# EAGLE library part NXW-07 (library con-ninigi)
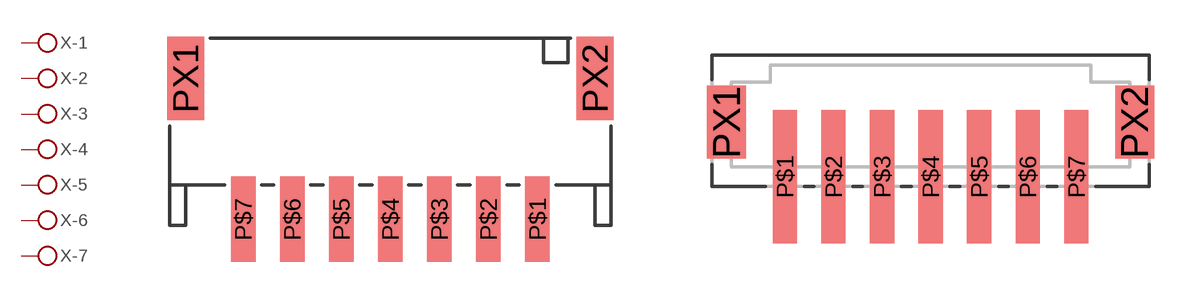
[diagram p3: symbol with the pads of NXW-07SMDK; footprints NXW-07SMDK, NXW-07SMD]

Designator prefix X; gates -1=PIN -2=PIN -3=PIN -4=PIN -5=PIN -6=PIN -7=PIN

## NXW-07SMDK  [NXW-07SMDK]
P$1  -1:P$1
P$2  -2:P$1
P$3  -3:P$1
P$4  -4:P$1
P$5  -5:P$1
P$6  -6:P$1
P$7  -7:P$1

## NXW-07SMD  [NXW-07SMD]
Pads as for NXW-07SMDK

## Footprint NXW-07SMDK (pad centres in mm)
smd 1 x 3.5: P$1 6,0; P$2 4,0; P$3 2,0; P$4 0,0; P$5 -2,0; P$6 -4,0; P$7 -6,0
smd 1.5 x 3.4: PX1 -8.35,5.75; PX2 8.35,5.75

## Footprint NXW-07SMD (pad centres in mm)
smd 1 x 5.5: P$1 -6,0; P$2 -4,0; P$3 -2,0; P$4 0,0; P$5 2,0; P$6 4,0; P$7 6,0
smd 1.6 x 3: PX1 -8.4,2.25; PX2 8.4,2.25